# Altium footprint library BGA9C50P3X3_158X162X62.PcbLib: 1 footprints
Each footprint in its own frame and in the unit in brackets; x right, y up, seen from the top. Pads: shape width x height; smd on the part's side, far side on the other; paste and mask are expansions set on the pad; w line width, h text height; cw(c..) or ccw(c..) is an arc to the next point about the centre after c.
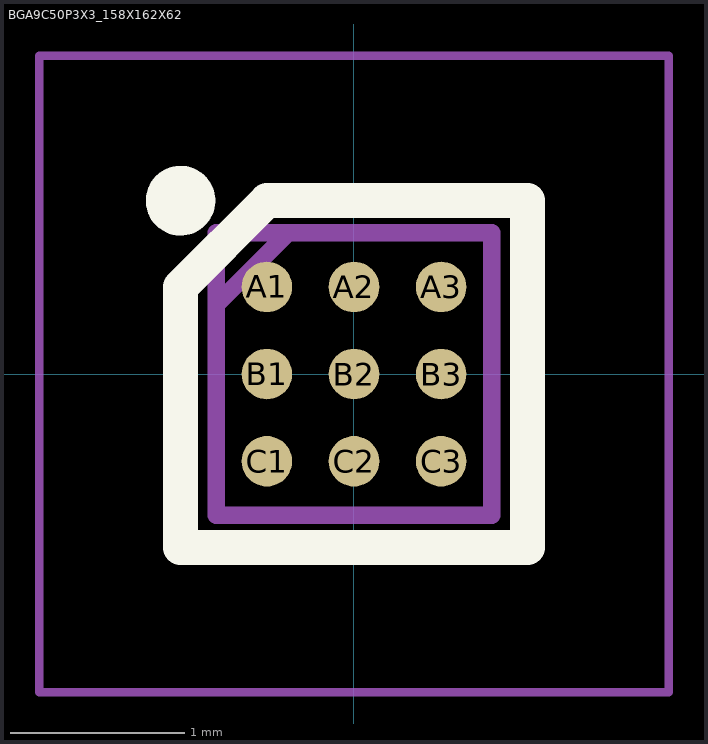
[diagram p0: the footprint, top view; thin cyan lines are the x and y axes]

## BGA9C50P3X3_158X162X62 [mm]
pads (9):
  round 0.29 smd: A1(-0.5,0.5) A2(0,0.5) A3(0.5,0.5) B1(-0.5,0) B2(0,0) B3(0.5,0) C1(-0.5,-0.5) C2(0,-0.5) C3(0.5,-0.5)
Top Overlay:
  circle w0.2: c-0.995,0.995 r0.1
  lines w0.2: -0.995,-0.995 0.995,-0.995 0.995,0.995 -0.5,0.995 -0.995,0.5 -0.995,-0.995
Mechanical 15:
  lines w0.1: -0.79,0.398 -0.377,0.811 ; -0.79,-0.81 0.79,-0.81 0.79,0.81 -0.79,0.81 -0.79,-0.81
Mechanical 20:
  lines w0.05: -1.805,-1.825 1.805,-1.825 1.805,1.826 -1.805,1.826 -1.805,-1.825